# Altium footprint library TPS7A8300.PcbLib: 1 footprints
Each footprint in its own frame and in the unit in brackets; x right, y up, seen from the top. Pads: shape width x height; smd on the part's side, far side on the other; paste and mask are expansions set on the pad; w line width, h text height; cw(c..) or ccw(c..) is an arc to the next point about the centre after c.
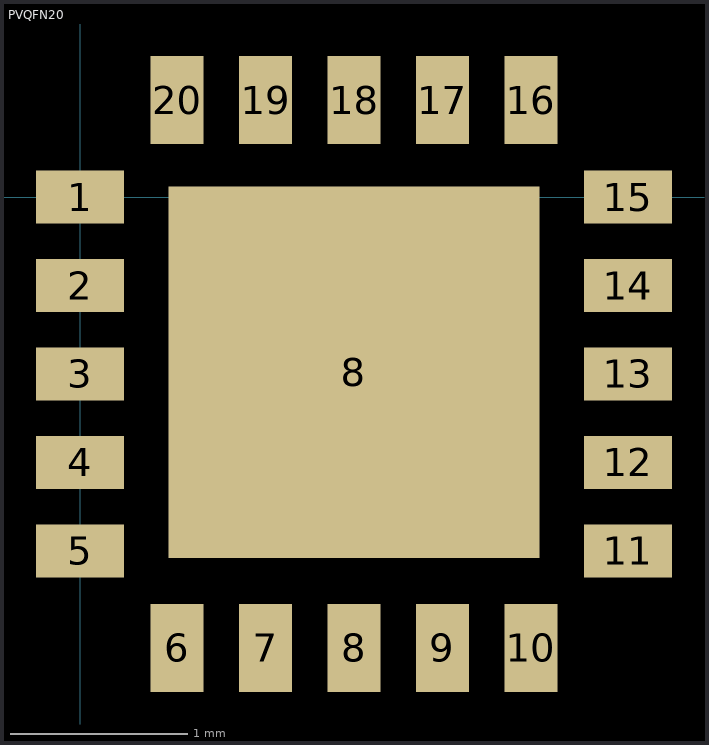
[diagram p0: the footprint, top view; thin cyan lines are the x and y axes]

## PVQFN20 [mm]
pads (21):
  rect 0.5x0.3 smd: 1(0,0) 2(0,-0.5) 3(0,-1) 4(0,-1.5) 5(0,-2) 11(3.1,-2) 12(3.1,-1.5) 13(3.1,-1) 14(3.1,-0.5) 15(3.1,0)
  rect 0.3x0.5 smd: 6(0.55,-2.55) 7(1.05,-2.55) 8(1.55,-2.55) 9(2.05,-2.55) 10(2.55,-2.55) 16(2.55,0.55) 17(2.05,0.55) 18(1.55,0.55) 19(1.05,0.55) 20(0.55,0.55)
  rect 2.1x2.1 smd: 8(1.549,-0.991)